# Altium footprint library PTPS16410DRCR.PcbLib: 4 footprints
Each footprint in its own frame and in the unit in brackets; x right, y up, seen from the top. Pads: shape width x height; smd on the part's side, far side on the other; paste and mask are expansions set on the pad; w line width, h text height; cw(c..) or ccw(c..) is an arc to the next point about the centre after c.
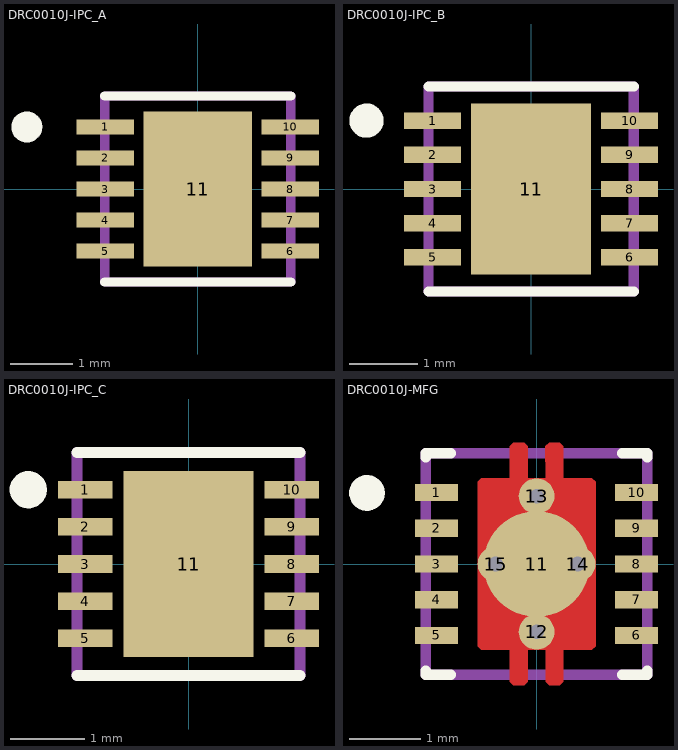
[diagram p0: the footprints below, top view; thin cyan lines are the x and y axes]

## DRC0010J-IPC_A [mm]
pads (11):
  rect 0.931x0.239 smd paste+0 mask+0: 1(-1.491,1) 2(-1.491,0.5) 3(-1.491,0) 4(-1.491,-0.5) 5(-1.491,-1) 6(1.491,-1) 7(1.491,-0.5) 8(1.491,0) 9(1.491,0.5) 10(1.491,1)
  rect 1.75x2.5 smd paste-1.237 mask+0: 11(0,0)
Top Overlay:
  circle w0.25: c-2.756,1 r0.125
  lines w0.15: -1.5,-1.5 1.5,-1.5 ; -1.5,1.5 1.5,1.5
Top Paste:
  region: -0.5,0.875 -0.5,-0.875 0.5,-0.875 0.5,0.875
Mechanical 13:
  lines w0.15: -1.5,-1.5 1.5,-1.5 1.5,1.5 -1.5,1.5 -1.5,-1.5
3D body "DRC0010J.stp": height 1, standoff 0, extent -1.5,-1.5 1.5,1.5

## DRC0010J-IPC_B [mm]
pads (11):
  rect 0.831x0.239 smd paste+0 mask+0: 1(-1.441,1) 2(-1.441,0.5) 3(-1.441,0) 4(-1.441,-0.5) 5(-1.441,-1) 6(1.441,-1) 7(1.441,-0.5) 8(1.441,0) 9(1.441,0.5) 10(1.441,1)
  rect 1.75x2.5 smd paste-1.237 mask+0: 11(0,0)
Top Overlay:
  circle w0.25: c-2.406,1 r0.125
  lines w0.15: -1.5,-1.5 1.5,-1.5 ; -1.5,1.5 1.5,1.5
Top Paste:
  region: -0.5,0.875 -0.5,-0.875 0.5,-0.875 0.5,0.875
Mechanical 13:
  lines w0.15: -1.5,-1.5 1.5,-1.5 1.5,1.5 -1.5,1.5 -1.5,-1.5
3D body "DRC0010J.stp": height 1, standoff 0, extent -1.5,-1.5 1.5,1.5

## DRC0010J-IPC_C [mm]
pads (11):
  rect 0.731x0.239 smd paste+0 mask+0: 1(-1.391,1) 2(-1.391,0.5) 3(-1.391,0) 4(-1.391,-0.5) 5(-1.391,-1) 6(1.391,-1) 7(1.391,-0.5) 8(1.391,0) 9(1.391,0.5) 10(1.391,1)
  rect 1.75x2.5 smd paste-1.237 mask+0: 11(0,0)
Top Overlay:
  circle w0.25: c-2.156,1 r0.125
  lines w0.15: -1.5,-1.5 1.5,-1.5 ; -1.5,1.5 1.5,1.5
Top Paste:
  region: -0.5,0.875 -0.5,-0.875 0.5,-0.875 0.5,0.875
Mechanical 13:
  lines w0.15: -1.5,-1.5 1.5,-1.5 1.5,1.5 -1.5,1.5 -1.5,-1.5
3D body "DRC0010J.stp": height 1, standoff 0, extent -1.5,-1.5 1.5,1.5

## DRC0010J-MFG [mm]
pads (15):
  rect 0.6x0.24 smd paste+0 mask+0: 1(-1.4,1) 2(-1.4,0.5) 3(-1.4,0) 4(-1.4,-0.5) 5(-1.4,-1) 6(1.4,-1) 7(1.4,-0.5) 8(1.4,0) 9(1.4,0.5) 10(1.4,1)
  round 1.485 smd paste-0.73 mask+0: 11(0,0)
  round 0.5 hole 0.203 paste-2539.97 mask+0: 12(0,-0.95) 13(0,0.95) 14(0.575,0) 15(-0.575,0)
Top Layer:
  region: -0.825,1.15 -0.825,-1.15 -0.775,-1.2 -0.375,-1.2 -0.375,-1.65 -0.325,-1.7 -0.175,-1.7 -0.125,-1.65 -0.125,-1.2 0.125,-1.2 0.125,-1.65 0.175,-1.7 0.325,-1.7 0.375,-1.65 0.375,-1.2 0.775,-1.2 0.825,-1.15 0.825,1.15 0.775,1.2 0.375,1.2 0.375,1.65 0.325,1.7 0.175,1.7 0.125,1.65 0.125,1.2 -0.125,1.2 -0.125,1.65 -0.175,1.7 -0.325,1.7 -0.375,1.65 -0.375,1.2 -0.775,1.2
Top Overlay:
  circle w0.25: c-2.375,0.995 r0.125
  lines w0.15: -1.55,-1.495 -1.55,-1.55 -1.2,-1.55 ; -1.55,1.495 -1.55,1.55 -1.2,1.55 ; 1.2,-1.55 1.55,-1.55 1.55,-1.495 ; 1.2,1.55 1.55,1.55 1.55,1.495
Top Paste:
  region: 0.125,-1.65 0.125,-1.41 0.175,-1.36 0.325,-1.36 0.375,-1.41 0.375,-1.65 0.325,-1.7 0.175,-1.7
  region: -0.325,-1.36 -0.175,-1.36 -0.125,-1.41 -0.125,-1.65 -0.175,-1.7 -0.325,-1.7 -0.375,-1.65 -0.375,-1.41
  region: 0.125,1.41 0.125,1.65 0.175,1.7 0.325,1.7 0.375,1.65 0.375,1.41 0.325,1.36 0.175,1.36
  region: -0.375,1.65 -0.325,1.7 -0.175,1.7 -0.125,1.65 -0.125,1.41 -0.175,1.36 -0.325,1.36 -0.375,1.41
  region: 0.7,-1.16 -0.7,-1.16 -0.75,-1.11 -0.75,-0.15 -0.7,-0.1 0.7,-0.1 0.75,-0.15 0.75,-1.11
  region: 0.75,0.15 0.7,0.1 -0.7,0.1 -0.75,0.15 -0.75,1.11 -0.7,1.16 0.7,1.16 0.75,1.11
Top Solder:
  region: -0.775,-1.2 -0.825,-1.15 -0.825,1.15 -0.775,1.2 -0.375,1.2 -0.375,1.65 -0.325,1.7 -0.175,1.7 -0.125,1.65 -0.125,1.2 0.125,1.2 0.125,1.65 0.175,1.7 0.325,1.7 0.375,1.65 0.375,1.2 0.775,1.2 0.825,1.15 0.825,-1.15 0.775,-1.2 0.375,-1.2 0.375,-1.65 0.325,-1.7 0.175,-1.7 0.125,-1.65 0.125,-1.2 -0.125,-1.2 -0.125,-1.65 -0.175,-1.7 -0.325,-1.7 -0.375,-1.65 -0.375,-1.2
Mechanical 13:
  lines w0.15: -1.55,-1.55 -1.55,1.55 1.55,1.55 1.55,-1.55 -1.55,-1.55
3D body "DRC0010J.stp": height 1, standoff 0, extent -1.5,-1.5 1.5,1.5